# Altium schematic symbol library COMBICON PT-5mm.SchLib: 2 symbols
Pins are listed as number, name and electrical type; pins without a type are passive.

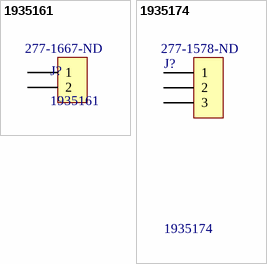
[diagram p0: symbols 1935161 to 1935174]

## 1935161
designator J?  Supplier Part Number 1: 277-1667-ND
TERM BLK 2POS SIDE ENTRY 5MM PCB; Supplier 1: Digi-Key
footprint PHOENIX_1935161
pins: 1, 2

## 1935174
designator J?  Supplier Part Number 1: 277-1578-ND
TERM BLK 3POS SIDE ENTRY 5MM PCB; Manufacturer: Würth Elektronik eiSos GmbH; partNo: 691311700003; ComponentLink1 Description: Manufacturer; ComponentLink2 Description: Datasheet; NoPins: 03; Created Date: 6 January 2014; ComponentLink1URL: http://www.we-online.com; ComponentLink2URL: http://katalog.we-online.de/em/datasheet/6913117000xx.pdf; Created by: Karrer Zheng; Supplier 1: Digi-Key
footprint PHOENIX_1935174
pins: 1, 2, 3